# Altium integrated library Klemmblock_2P.IntLib: 1 symbol
Pins are listed as number, name and electrical type; pins without a type are passive.

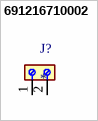
[diagram p0: symbol 691216710002]

## 691216710002
designator J?
2 Position Wire to Board Terminal Block Horizontal with Board 0.197 (5.00mm) Through Hole; MF: WÃ¼rth Elektronik; MP: 691216710002; SnapEDA_Link: https://www.snapeda.com/parts/691216710002/W%25C3%25BCrth+Elektronik+Midcom/view-part/?ref=snap; Package: None; Value: *; Check_prices: https://www.snapeda.com/parts/691216710002/W%25C3%25BCrth+Elektronik+Midcom/view-part/?ref=eda
footprint 691216710002
pins: 1, 2